# EAGLE library part LPC1114FHI33 (library nxp_60)
LPC1114 50 MHz 32-bit ARM Cortex-M0 based microcontroller featuring a high level of integration and very low power consumption. On-chip flash program memory The LPC1110/11/12/13/14 contain 32 kB (LPC1114), 24 kB (LPC1113), 16 kB (LPC1112), 8 kB (LPC1111),or 4 kB (LPC1110) of on-chip flash memory. On-chip SRAM The LPC1110/11/12/13/14 contain a total of 8 kB, 4 kB, 2 kB, or 1 kB on-chip static RAM memory. MK - Datasheet available on www.nxp.com
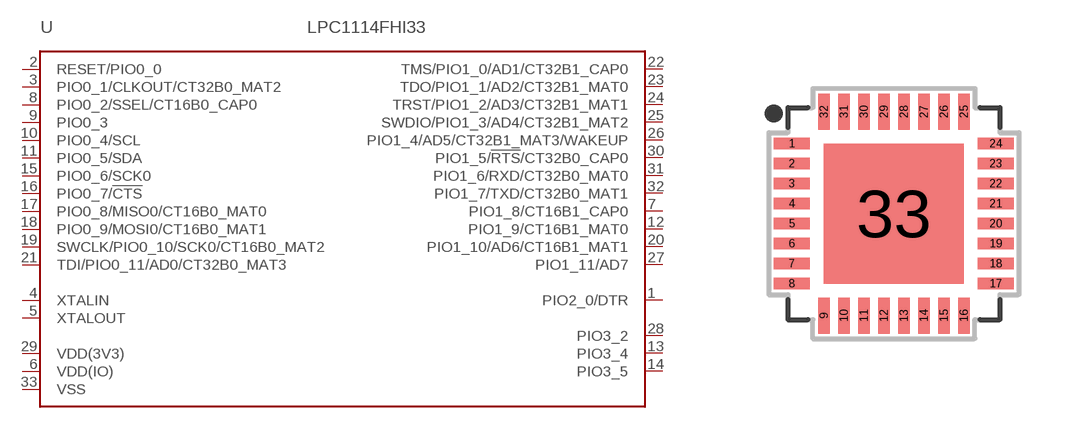
[diagram p60: symbol with the pads of SOT617-3; footprint SOT617-3]

Designator prefix U

## LPC1114FHI33  [SOT617-3]
1  PIO2_0/DTR
2  RESET/PIO0_0
3  PIO0_1/CLKOUT/CT32B0_MAT2
4  XTALIN  in
5  XTALOUT  out
6  VDD(IO)  pwr
7  PIO1_8/CT16B1_CAP0
8  PIO0_2/SSEL/CT16B0_CAP0
9  PIO0_3
10  PIO0_4/SCL
11  PIO0_5/SDA
12  PIO1_9/CT16B1_MAT0
13  PIO3_4
14  PIO3_5
15  PIO0_6/SCK0
16  PIO0_7/!CTS!
17  PIO0_8/MISO0/CT16B0_MAT0
18  PIO0_9/MOSI0/CT16B0_MAT1
19  SWCLK/PIO0_10/SCK0/CT16B0_MAT2
20  PIO1_10/AD6/CT16B1_MAT1
21  TDI/PIO0_11/AD0/CT32B0_MAT3
22  TMS/PIO1_0/AD1/CT32B1_CAP0
23  TDO/PIO1_1/AD2/CT32B1_MAT0
24  TRST/PIO1_2/AD3/CT32B1_MAT1
25  SWDIO/PIO1_3/AD4/CT32B1_MAT2
26  PIO1_4/AD5/CT32B1_MAT3/WAKEUP
27  PIO1_11/AD7
28  PIO3_2
29  VDD(3V3)  pwr
30  PIO1_5/!RTS!/CT32B0_CAP0
31  PIO1_6/RXD/CT32B0_MAT0
32  PIO1_7/TXD/CT32B0_MAT1
33  VSS  pwr

## Footprint SOT617-3 (pad centres in mm)
SOT617-3 HVQFN32: plastic thermal enhanced very thin quad flat package; no leads; 32 terminals; body 5 x 5 x 0.85 mm JEDEC: MO-220 IEC: -- JEITA: --
smd 0.9 x 0.29: 1 -2.55,1.75; 2 -2.55,1.25; 3 -2.55,0.75; 4 -2.55,0.25; 5 -2.55,-0.25; 6 -2.55,-0.75; 7 -2.55,-1.25; 8 -2.55,-1.75; 17 2.55,-1.75; 18 2.55,-1.25; 19 2.55,-0.75; 20 2.55,-0.25; 21 2.55,0.25; 22 2.55,0.75; 23 2.55,1.25; 24 2.55,1.75
smd 0.29 x 0.9: 9 -1.75,-2.55; 10 -1.25,-2.55; 11 -0.75,-2.55; 12 -0.25,-2.55; 13 0.25,-2.55; 14 0.75,-2.55; 15 1.25,-2.55; 16 1.75,-2.55; 25 1.75,2.55; 26 1.25,2.55; 27 0.75,2.55; 28 0.25,2.55; 29 -0.25,2.55; 30 -0.75,2.55; 31 -1.25,2.55; 32 -1.75,2.55
smd 3.5 x 3.5: 33 0,0